# Altium footprint library MolexMicroFit3_3POS_RA.PcbLib: 1 footprints
Each footprint in its own frame and in the unit in brackets; x right, y up, seen from the top. Pads: shape width x height; smd on the part's side, far side on the other; paste and mask are expansions set on the pad; w line width, h text height; cw(c..) or ccw(c..) is an arc to the next point about the centre after c.
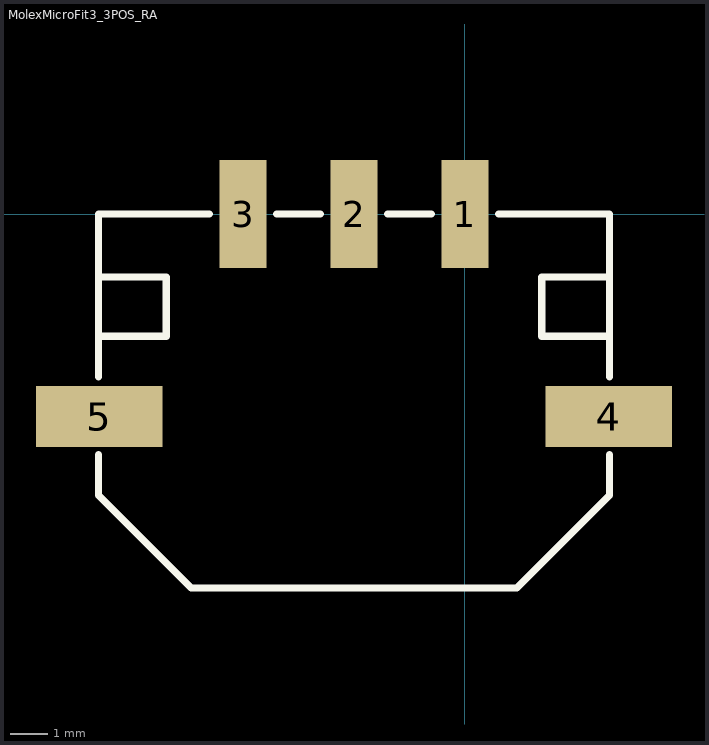
[diagram p0: the footprint, top view; thin cyan lines are the x and y axes]

## MolexMicroFit3_3POS_RA [mm]
pads (5):
  rect 1.27x2.92 smd: 1(0,0) 2(-3,0) 3(-6,0)
  rect 3.43x1.65 smd: 4(3.885,-5.47) 5(-9.885,-5.47)
Top Overlay:
  lines w0.191: -9.9,-6.5 -9.9,-7.6 -7.4,-10.1 1.4,-10.1 3.9,-7.6 3.9,-6.5 ; -9.9,-4.4 -9.9,0 -6.9,0 ; -9.9,-3.3 -8.075,-3.3 -8.075,-1.7 -9.9,-1.7 ; -5.1,0 -3.9,0 ; -2.1,0 -0.9,0 ; 0.9,0 3.9,0 3.9,-4.4 ; 3.9,-3.3 2.075,-3.3 ; 3.9,-1.7 2.075,-1.7 ; 2.075,-3.3 2.075,-3.3 ; 2.075,-3.3 2.075,-1.7 ; 2.075,-1.7 2.075,-1.7
3D body "436500313.stp": height 5.58, standoff -0.1, extent -11.325,-10.05 5.325,0.69